# EAGLE library part 677006144321 (library Wuerth_Elektronik_eiCan_Communication_Connectors_v2.2)
WR-COM Up Right Receptacle IEEE 1394 / Fire Wire, 6 pins
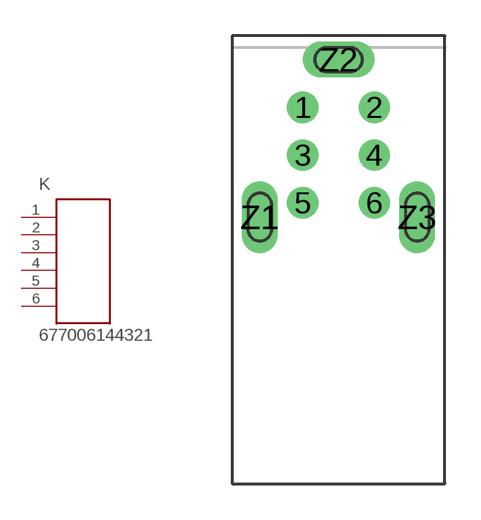
[diagram p6: symbol with the pads of 677006144321; footprint 677006144321]

Designator prefix K

## 677006144321  [677006144321]
1  1  pas
2  2  pas
3  3  pas
4  4  pas
5  5  pas
6  6  pas

## Footprint 677006144321 (pad centres in mm)
WR-COM Up Right Receptacle IEEE 1394 / Fire Wire, 6 pins
drill 0.8: 1 -1.5,2; 2 1.5,2; 3 -1.5,0; 4 1.5,0; 5 -1.5,-2; 6 1.5,-2
drill 1 pad 1.5 long: Z1 -3.3,-2.6; Z2 0,4; Z3 3.3,-2.6